# EAGLE library part PIC32-64 (library pic32)
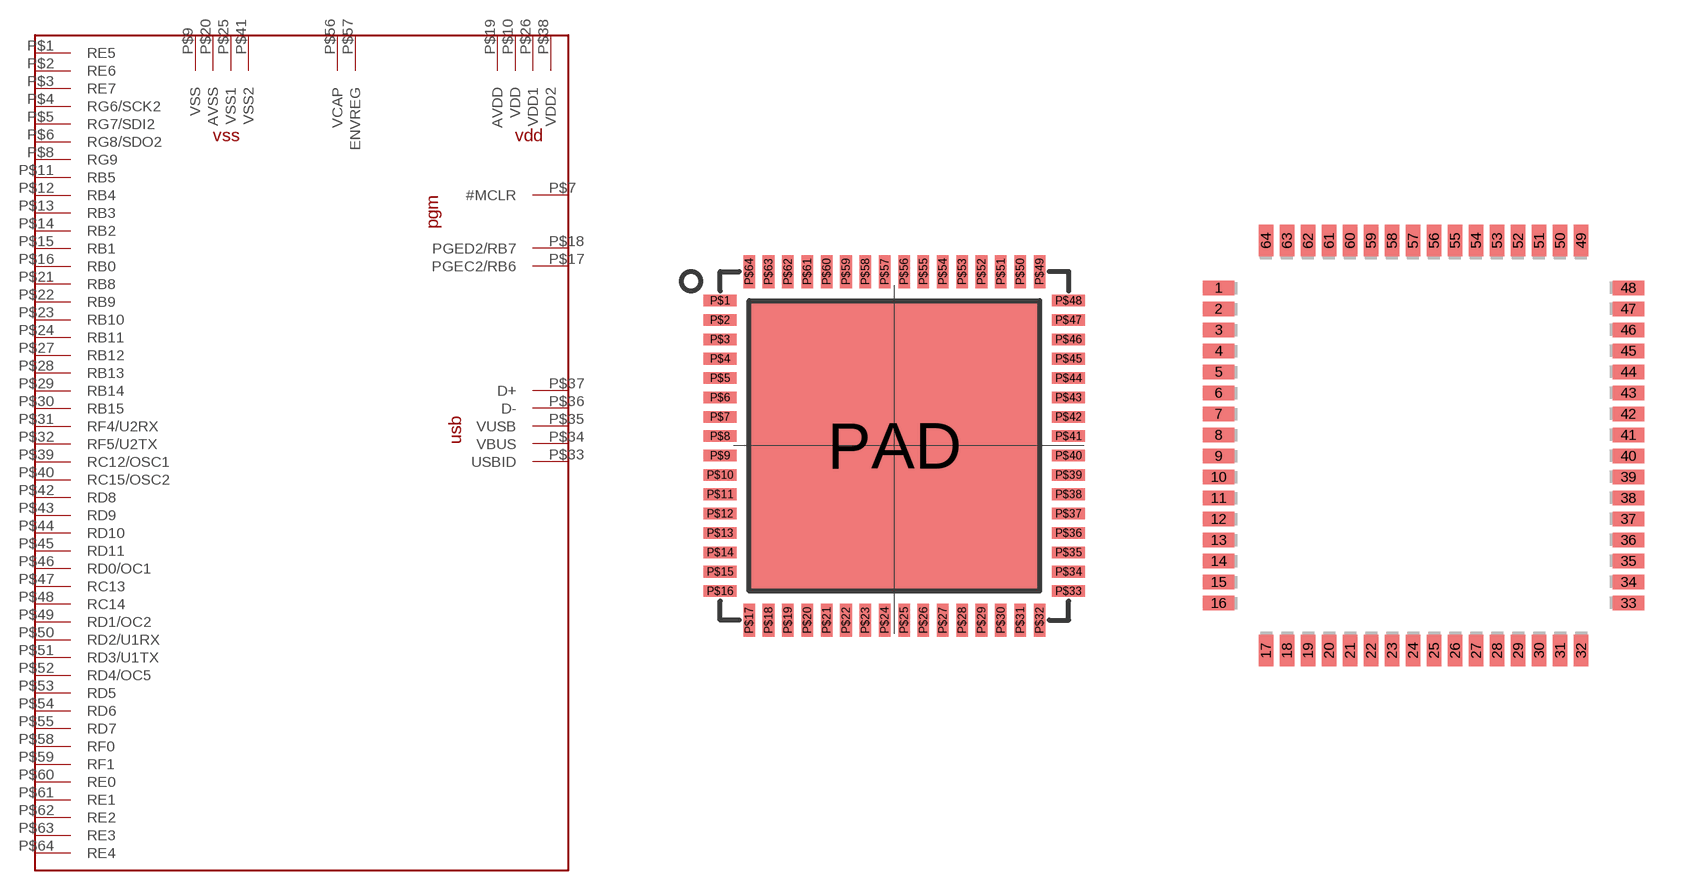
[diagram p0: symbol with the pads of 64QFN; footprints 64QFN, TQFP64]

Designator prefix -

## PIC32-64  [64QFN]
P$1  RE5
P$2  RE6
P$3  RE7
P$4  RG6/SCK2
P$5  RG7/SDI2
P$6  RG8/SDO2
P$7  #MCLR
P$8  RG9
P$9  VSS
P$10  VDD
P$11  RB5
P$12  RB4
P$13  RB3
P$14  RB2
P$15  RB1
P$16  RB0
P$17  PGEC2/RB6
P$18  PGED2/RB7
P$19  AVDD
P$20  AVSS
P$21  RB8
P$22  RB9
P$23  RB10
P$24  RB11
P$25  VSS1
P$26  VDD1
P$27  RB12
P$28  RB13
P$29  RB14
P$30  RB15
P$31  RF4/U2RX
P$32  RF5/U2TX
P$33  USBID
P$34  VBUS
P$35  VUSB
P$36  D-
P$37  D+
P$38  VDD2
P$39  RC12/OSC1
P$40  RC15/OSC2
P$41  VSS2
P$42  RD8
P$43  RD9
P$44  RD10
P$45  RD11
P$46  RD0/OC1
P$47  RC13
P$48  RC14
P$49  RD1/OC2
P$50  RD2/U1RX
P$51  RD3/U1TX
P$52  RD4/OC5
P$53  RD5
P$54  RD6
P$55  RD7
P$56  VCAP
P$57  ENVREG
P$58  RF0
P$59  RF1
P$60  RE0
P$61  RE1
P$62  RE2
P$63  RE3
P$64  RE4

## PIC32-64TQFP  [TQFP64]
1  RE5
2  RE6
3  RE7
4  RG6/SCK2
5  RG7/SDI2
6  RG8/SDO2
7  #MCLR
8  RG9
9  VSS
10  VDD
11  RB5
12  RB4
13  RB3
14  RB2
15  RB1
16  RB0
17  PGEC2/RB6
18  PGED2/RB7
19  AVDD
20  AVSS
21  RB8
22  RB9
23  RB10
24  RB11
25  VSS1
26  VDD1
27  RB12
28  RB13
29  RB14
30  RB15
31  RF4/U2RX
32  RF5/U2TX
33  USBID
34  VBUS
35  VUSB
36  D-
37  D+
38  VDD2
39  RC12/OSC1
40  RC15/OSC2
41  VSS2
42  RD8
43  RD9
44  RD10
45  RD11
46  RD0/OC1
47  RC13
48  RC14
49  RD1/OC2
50  RD2/U1RX
51  RD3/U1TX
52  RD4/OC5
53  RD5
54  RD6
55  RD7
56  VCAP
57  ENVREG
58  RF0
59  RF1
60  RE0
61  RE1
62  RE2
63  RE3
64  RE4

## PIC32-64TQFP64-2  [TQFP64-2]
Pads as for 64QFN

## Footprint 64QFN (pad centres in mm)
smd 0.85 x 0.3: P$1 -0.75,8.25; P$2 -0.75,7.75; P$3 -0.75,7.25; P$4 -0.75,6.75; P$5 -0.75,6.25; P$6 -0.75,5.75; P$7 -0.75,5.25; P$8 -0.75,4.75; P$9 -0.75,4.25; P$10 -0.75,3.75; P$11 -0.75,3.25; P$12 -0.75,2.75; P$13 -0.75,2.25; P$14 -0.75,1.75; P$15 -0.75,1.25; P$16 -0.75,0.75; P$33 8.25,0.75; P$34 8.25,1.25; P$35 8.25,1.75; P$36 8.25,2.25; P$37 8.25,2.75; P$38 8.25,3.25; P$39 8.25,3.75; P$40 8.25,4.25; P$41 8.25,4.75; P$42 8.25,5.25; P$43 8.25,5.75; P$44 8.25,6.25; P$45 8.25,6.75; P$46 8.25,7.25; P$47 8.25,7.75; P$48 8.25,8.25
smd 0.3 x 0.85: P$17 0,0; P$18 0.5,0; P$19 1,0; P$20 1.5,0; P$21 2,0; P$22 2.5,0; P$23 3,0; P$24 3.5,0; P$25 4,0; P$26 4.5,0; P$27 5,0; P$28 5.5,0; P$29 6,0; P$30 6.5,0; P$31 7,0; P$32 7.5,0; P$49 7.5,9; P$50 7,9; P$51 6.5,9; P$52 6,9; P$53 5.5,9; P$54 5,9; P$55 4.5,9; P$56 4,9; P$57 3.5,9; P$58 3,9; P$59 2.5,9; P$60 2,9; P$61 1.5,9; P$62 1,9; P$63 0.5,9; P$64 0,9
smd 7.5 x 7.5: PAD 3.75,4.5

## Footprint TQFP64 (pad centres in mm)
Thin Plasic Quad Flat Package Updated from atml.lbr 17.01.2005 alf@cadsoft.de
smd 1.194 x 0.559: 1 -7.8,6; 2 -7.8,5.2; 3 -7.8,4.4; 4 -7.8,3.6; 5 -7.8,2.8; 6 -7.8,2; 7 -7.8,1.2; 8 -7.8,0.4; 9 -7.8,-0.4; 10 -7.8,-1.2; 11 -7.8,-2; 12 -7.8,-2.8; 13 -7.8,-3.6; 14 -7.8,-4.4; 15 -7.8,-5.2; 16 -7.8,-6; 33 7.8,-6; 34 7.8,-5.2; 35 7.8,-4.4; 36 7.8,-3.6; 37 7.8,-2.8; 38 7.8,-2; 39 7.8,-1.2; 40 7.8,-0.4; 41 7.8,0.4; 42 7.8,1.2; 43 7.8,2; 44 7.8,2.8; 45 7.8,3.6; 46 7.8,4.4; 47 7.8,5.2; 48 7.8,6
smd 0.559 x 1.194: 17 -6,-7.8; 18 -5.2,-7.8; 19 -4.4,-7.8; 20 -3.6,-7.8; 21 -2.8,-7.8; 22 -2,-7.8; 23 -1.2,-7.8; 24 -0.4,-7.8; 25 0.4,-7.8; 26 1.2,-7.8; 27 2,-7.8; 28 2.8,-7.8; 29 3.6,-7.8; 30 4.4,-7.8; 31 5.2,-7.8; 32 6,-7.8; 49 6,7.8; 50 5.2,7.8; 51 4.4,7.8; 52 3.6,7.8; 53 2.8,7.8; 54 2,7.8; 55 1.2,7.8; 56 0.4,7.8; 57 -0.4,7.8; 58 -1.2,7.8; 59 -2,7.8; 60 -2.8,7.8; 61 -3.6,7.8; 62 -4.4,7.8; 63 -5.2,7.8; 64 -6,7.8

## Footprint TQFP64-2 (pad centres in mm)
smd 1.6 x 0.3: P$1 0,-2; P$2 0,-2.5; P$3 0,-3; P$4 0,-3.5; P$5 0,-4; P$6 0,-4.5; P$7 0,-5; P$8 0,-5.5; P$9 0,-6; P$10 0,-6.5; P$11 0,-7; P$12 0,-7.5; P$13 0,-8; P$14 0,-8.5; P$15 0,-9; P$16 0,-9.5; P$33 11.5,-9.5; P$34 11.5,-9; P$35 11.5,-8.5; P$36 11.5,-8; P$37 11.5,-7.5; P$38 11.5,-7; P$39 11.5,-6.5; P$40 11.5,-6; P$41 11.5,-5.5; P$42 11.5,-5; P$43 11.5,-4.5; P$44 11.5,-4; P$45 11.5,-3.5; P$46 11.5,-3; P$47 11.5,-2.5; P$48 11.5,-2
smd 0.3 x 1.6: P$17 2,-11.5; P$18 2.5,-11.5; P$19 3,-11.5; P$20 3.5,-11.5; P$21 4,-11.5; P$22 4.5,-11.5; P$23 5,-11.5; P$24 5.5,-11.5; P$25 6,-11.5; P$26 6.5,-11.5; P$27 7,-11.5; P$28 7.5,-11.5; P$29 8,-11.5; P$30 8.5,-11.5; P$31 9,-11.5; P$32 9.5,-11.5; P$49 9.5,0; P$50 9,0; P$51 8.5,0; P$52 8,0; P$53 7.5,0; P$54 7,0; P$55 6.5,0; P$56 6,0; P$57 5.5,0; P$58 5,0; P$59 4.5,0; P$60 4,0; P$61 3.5,0; P$62 3,0; P$63 2.5,0; P$64 2,0